# Altium footprint library 5.直插器件封装.PcbLib: 32 footprints (part 1 of 2)
Each footprint in its own frame and in the unit in brackets; x right, y up, seen from the top. Pads: shape width x height; smd on the part's side, far side on the other; paste and mask are expansions set on the pad; w line width, h text height; cw(c..) or ccw(c..) is an arc to the next point about the centre after c.
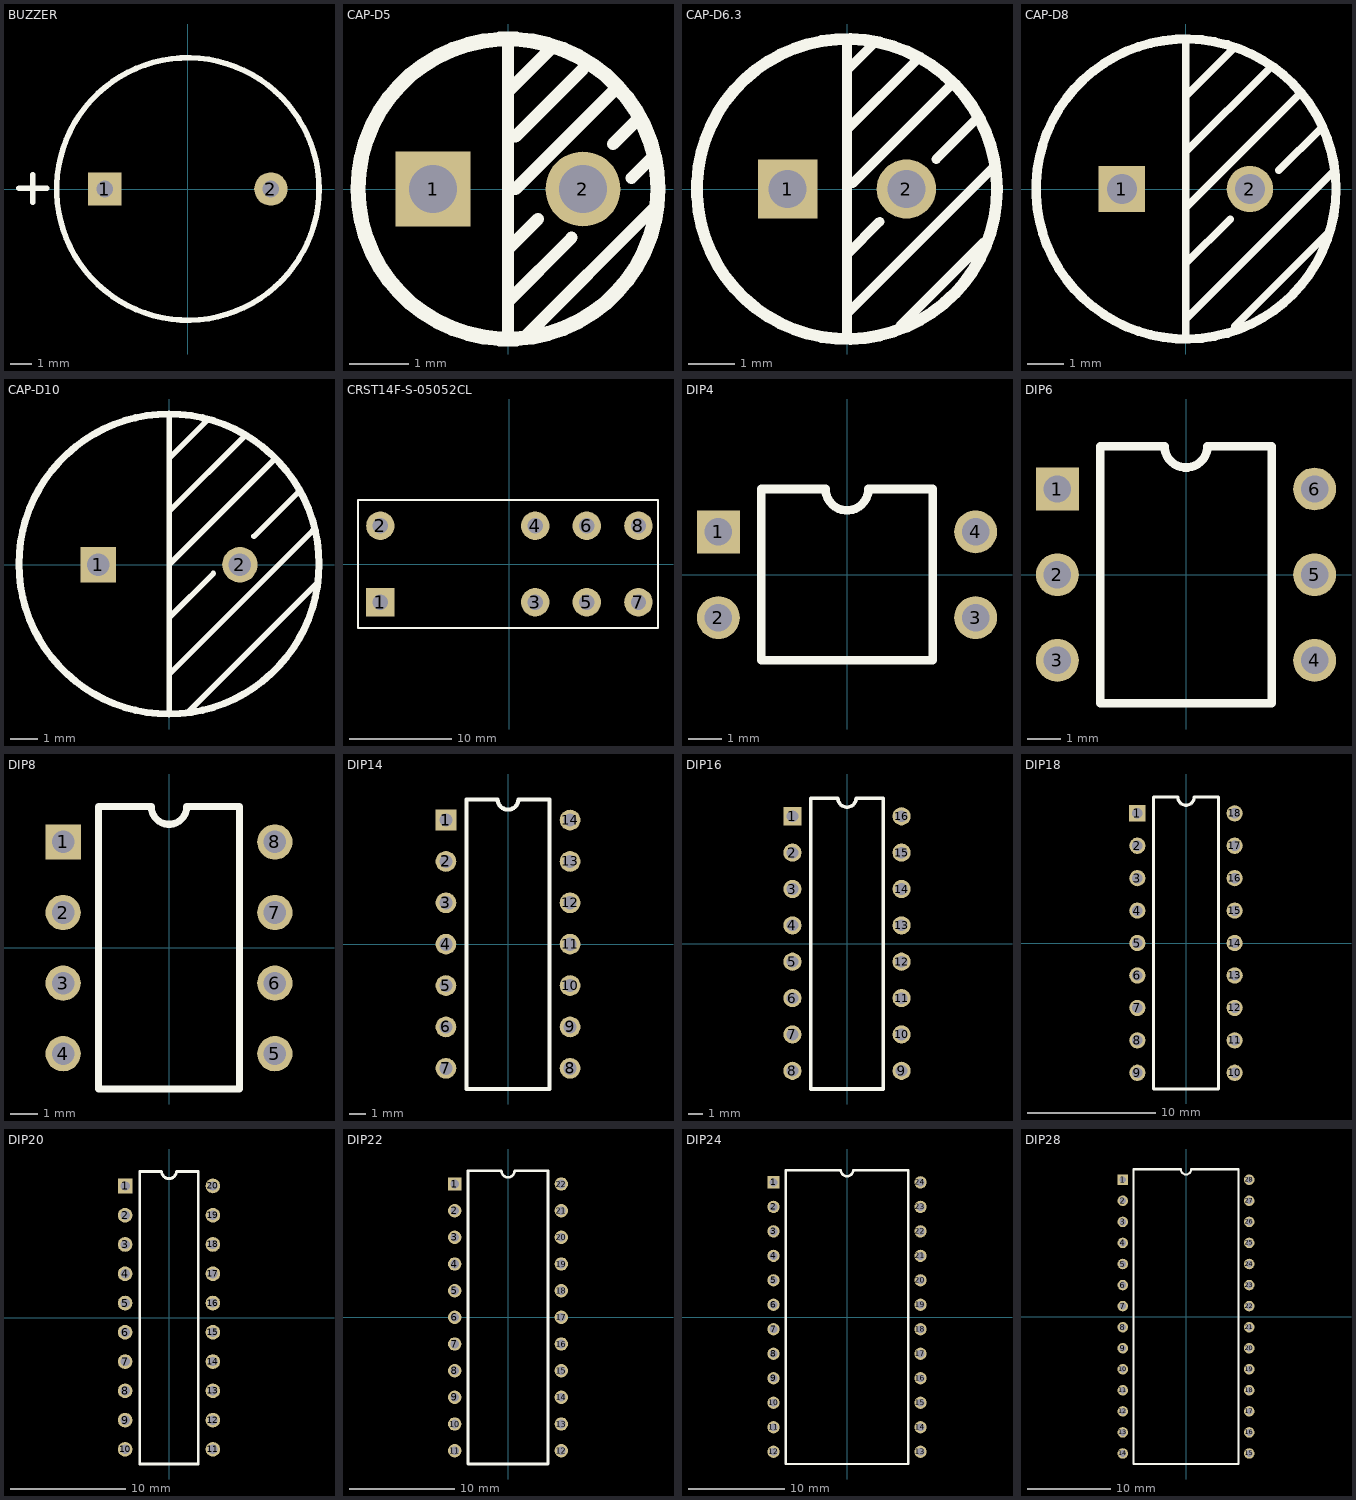
[diagram p0: the footprints below, top view; thin cyan lines are the x and y axes]

## BUZZER [mil]
height 389.76
pads (2):
  rect 60x60 hole 30: 1(-149.61,0)
  round 60 hole 30: 2(149.61,0)
Top Overlay:
  circle w10: c0,0 r236.22
  lines w10: -304,1 -254,1 ; -279,-24 -279,26

## CAP-D5 [mil]
pads (2):
  rect 50x50 hole 32: 1(-50,0)
  round 50 hole 32: 2(50,0)
Top Overlay:
  circle w10: c0,0 r100
  lines w8: 0,-100 0,100 ; 0,-75 42.5,-32.5 ; 0,-40 20,-20 ; 0,65 30,95 ; 5,0 70,65 ; 5,35 50,80 ; 10,-100 97.5,-12.5 ; 70,30 85,45 ; 82.5,7.5 97.5,22.5

## CAP-D6.3 [mil]
pads (2):
  rect 50x50 hole 32: 1(-50,0)
  round 50 hole 32: 2(50,0)
Top Overlay:
  circle w10: c0,0 r126.3
  lines w8: 0,-125 0,125 ; 0,-105 125,20 ; 0,-55 27.5,-27.5 ; 0,50 60,110 ; 0,100 25,125 ; 5,5 90,90 ; 45,-115 115,-45 ; 75,25 107.5,57.5

## CAP-D8 [mil]
pads (2):
  rect 50x50 hole 32: 1(-68.9,0)
  round 50 hole 32: 2(68.9,0)
Top Overlay:
  circle w10: c0.08,0 r161.42
  lines w8: 0,-160 0,155 ; 0,-140 160,20 ; 0,-80 47.5,-32.5 ; 0,-20 122.5,102.5 ; 0,40 90,130 ; 0,100 50,150 ; 52.5,-147.5 152.5,-47.5 ; 100,20 145,65

## CAP-D10 [mil]
pads (2):
  rect 50x50 hole 32: 1(-100,0)
  round 50 hole 32: 2(100,0)
Top Overlay:
  circle w10: c-0.12,1 r211.88
  lines w8: 0,-205 0,210 ; 0,-155 202.5,47.5 ; 0,-75 62.5,-12.5 ; 0,0 150,150 ; 0,75 107.5,182.5 ; 0,150 55,205 ; 25,-210 210,-25 ; 120,40 185,105

## CRST14F-S-05052CL [mm]
pads (8):
  rect 2.8x2.8 hole 1.5: 1(-12.69,-3.75)
  round 2.8 hole 1.5: 2(-12.69,3.75) 3(2.53,-3.75) 4(2.53,3.75) 5(7.61,-3.75) 6(7.61,3.75) 7(12.69,-3.75) 8(12.69,3.75)
Top Overlay:
  lines w0.2: -14.89,-6.3 14.61,-6.3 14.61,6.3 -14.89,6.3 -14.89,-6.3

## DIP4 [mil]
pads (4):
  rect 50x50 hole 32: 1(-150,50)
  round 50 hole 32: 2(-150,-50) 3(150,-50) 4(150,50)
Top Overlay:
  lines w10: -100,-100 -100,100 -25,100 ccw(c0,100) 25,100 100,100 100,-100 -100,-100

## DIP6 [mil]
pads (6):
  rect 50x50 hole 32: 1(-150,100)
  round 50 hole 32: 2(-150,0) 3(-150,-100) 4(150,-100) 5(150,0) 6(150,100)
Top Overlay:
  lines w10: -100,-150 -100,150 -25,150 ccw(c0,150) 25,150 100,150 100,-150 -100,-150

## DIP8 [mil]
pads (8):
  rect 50x50 hole 32: 1(-150,150)
  round 50 hole 32: 2(-150,50) 3(-150,-50) 4(-150,-150) 5(150,-150) 6(150,-50) 7(150,50) 8(150,150)
Top Overlay:
  lines w10: -100,-200 100,-200 100,200 25,200 cw(c0,200) -25,200 -100,200 -100,-200

## DIP14 [mil]
pads (14):
  rect 50x50 hole 32: 1(-150,300)
  round 50 hole 32: 2(-150,200) 3(-150,100) 4(-150,0) 5(-150,-100) 6(-150,-200) 7(-150,-300) 8(150,-300) 9(150,-200) 10(150,-100) 11(150,0) 12(150,100) 13(150,200) 14(150,300)
Top Overlay:
  lines w10: -100,-350 100,-350 100,350 25,350 cw(c0,350) -25,350 -100,350 -100,-350

## DIP16 [mil]
pads (16):
  rect 50x50 hole 32: 1(-150,350)
  round 50 hole 32: 2(-150,250) 3(-150,150) 4(-150,50) 5(-150,-50) 6(-150,-150) 7(-150,-250) 8(-150,-350) 9(150,-350) 10(150,-250) 11(150,-150) 12(150,-50) 13(150,50) 14(150,150) 15(150,250) 16(150,350)
Top Overlay:
  lines w10: -100,-400 100,-400 100,400 25,400 cw(c0,400) -25,400 -100,400 -100,-400

## DIP18 [mil]
pads (18):
  rect 50x50 hole 32: 1(-150,400)
  round 50 hole 32: 2(-150,300) 3(-150,200) 4(-150,100) 5(-150,0) 6(-150,-100) 7(-150,-200) 8(-150,-300) 9(-150,-400) 10(150,-400) 11(150,-300) 12(150,-200) 13(150,-100) 14(150,0) 15(150,100) 16(150,200) 17(150,300) 18(150,400)
Top Overlay:
  lines w10: -100,-450 -100,450 -25,450 ccw(c0,450) 25,450 100,450 100,-450 -100,-450

## DIP20 [mil]
pads (20):
  rect 50x50 hole 32: 1(-150,450)
  round 50 hole 32: 2(-150,350) 3(-150,250) 4(-150,150) 5(-150,50) 6(-150,-50) 7(-150,-150) 8(-150,-250) 9(-150,-350) 10(-150,-450) 11(150,-450) 12(150,-350) 13(150,-250) 14(150,-150) 15(150,-50) 16(150,50) 17(150,150) 18(150,250) 19(150,350) 20(150,450)
Top Overlay:
  lines w10: -100,-500 100,-500 100,500 25,500 cw(c0,500) -25,500 -100,500 -100,-500

## DIP22 [mil]
pads (22):
  rect 50x50 hole 32: 1(-200,500)
  round 50 hole 32: 2(-200,400) 3(-200,300) 4(-200,200) 5(-200,100) 6(-200,0) 7(-200,-100) 8(-200,-200) 9(-200,-300) 10(-200,-400) 11(-200,-500) 12(200,-500) 13(200,-400) 14(200,-300) 15(200,-200) 16(200,-100) 17(200,0) 18(200,100) 19(200,200) 20(200,300) 21(200,400) 22(200,500)
Top Overlay:
  lines w10: -150,-550 150,-550 150,550 25,550 cw(c0,550) -25,550 -150,550 -150,-550

## DIP24 [mil]
pads (24):
  rect 50x50 hole 32: 1(-300,550)
  round 50 hole 32: 2(-300,450) 3(-300,350) 4(-300,250) 5(-300,150) 6(-300,50) 7(-300,-50) 8(-300,-150) 9(-300,-250) 10(-300,-350) 11(-300,-450) 12(-300,-550) 13(300,-550) 14(300,-450) 15(300,-350) 16(300,-250) 17(300,-150) 18(300,-50) 19(300,50) 20(300,150) 21(300,250) 22(300,350) 23(300,450) 24(300,550)
Top Overlay:
  lines w10: -250,-600 250,-600 250,600 25,600 cw(c0,600) -25,600 -250,600 -250,-600

## DIP28 [mil]
pads (28):
  rect 50x50 hole 32: 1(-300,650)
  round 50 hole 32: 2(-300,550) 3(-300,450) 4(-300,350) 5(-300,250) 6(-300,150) 7(-300,50) 8(-300,-50) 9(-300,-150) 10(-300,-250) 11(-300,-350) 12(-300,-450) 13(-300,-550) 14(-300,-650) 15(300,-650) 16(300,-550) 17(300,-450) 18(300,-350) 19(300,-250) 20(300,-150) 21(300,-50) 22(300,50) 23(300,150) 24(300,250) 25(300,350) 26(300,450) 27(300,550) 28(300,650)
Top Overlay:
  lines w10: -250,-700 -250,700 -25,700 ccw(c0,700) 25,700 250,700 250,-700 -250,-700